# EAGLE library part BBA-XXX-A (library LINX)
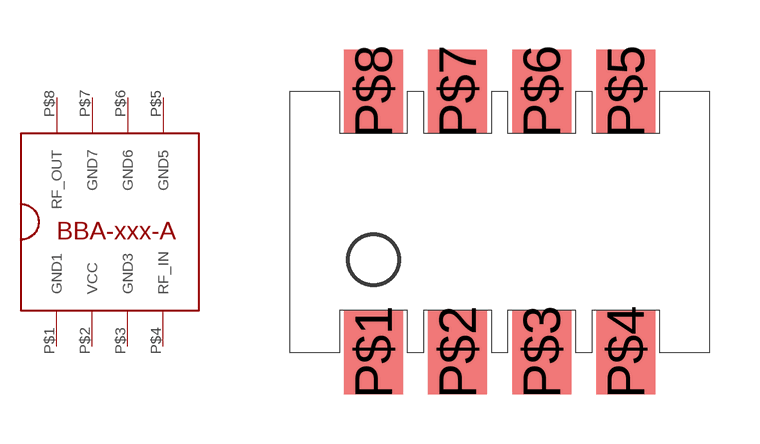
[diagram p2: symbol with the pads of BBA-XXX-A; footprint BBA-XXX-A]

Designator prefix -

## BBA-XXX-A  [BBA-XXX-A]
P$1  GND1  pwr
P$2  VCC  pwr
P$3  GND3  pwr
P$4  RF_IN
P$5  GND5  pwr
P$6  GND6  pwr
P$7  GND7  pwr
P$8  RF_OUT

## Footprint BBA-XXX-A (pad centres in mm)
smd 1.778 x 2.54: P$1 0,0; P$2 2.54,0; P$3 5.08,0; P$4 7.62,0; P$5 7.62,7.874; P$6 5.08,7.874; P$7 2.54,7.874; P$8 0,7.874